# Altium schematic symbol library mcu_fmd.SchLib: 2 symbols
Pins are listed as number, name and electrical type; pins without a type are passive.

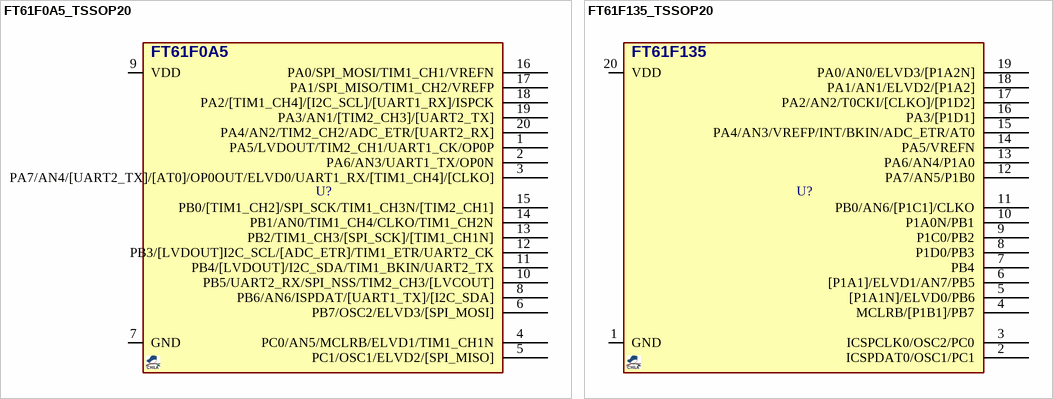
[diagram p0: symbols FT61F0A5_TSSOP20 to FT61F135_TSSOP20]

## FT61F0A5_TSSOP20
designator U?, comment FT61F135  (value not drawn)
MCU, FMD MCU 8-bit, 3KB FLASH, 256B SRAM; DESC: 128b EEPROM, 10-bit ADC, 3timers, UART, SPI, I2C; MANF_P#: FT61F0A5-TRB; PARAM2: 1.9~5.5VCC, 16MHz, 12-bit ADC; PARAM: 3KB FLASH, 256B SRAM, -40~85oC; MANF: FMD; PRICE: 0.3$; VALUE: FT61F135; PACKAGE: TSSOP-20
footprint SOG65_20 (PW TSSOP (TI), MO-153-AC (JEDEC), 20Lead, pitch: 0.65mm, 6.5x4.4x1.2mm)
pins: 1 PA5/LVDOUT/TIM2_CH1/UART1_CK/OP0P, 2 PA6/AN3/UART1_TX/OP0N, 3 PA7/AN4/[UART2_TX]/[AT0]/OP0OUT/ELVD0/UART1_RX/[TIM1_CH4]/[CLKO], 4 PC0/AN5/MCLRB/ELVD1/TIM1_CH1N, 5 PC1/OSC1/ELVD2/[SPI_MISO], 6 PB7/OSC2/ELVD3/[SPI_MOSI], 7 GND, 8 PB6/AN6/ISPDAT/[UART1_TX]/[I2C_SDA], 9 VDD, 10 PB5/UART2_RX/SPI_NSS/TIM2_CH3/[LVCOUT], 11 PB4/[LVDOUT]/I2C_SDA/TIM1_BKIN/UART2_TX, 12 PB3/[LVDOUT]I2C_SCL/[ADC_ETR]/TIM1_ETR/UART2_CK, 13 PB2/TIM1_CH3/[SPI_SCK]/[TIM1_CH1N], 14 PB1/AN0/TIM1_CH4/CLKO/TIM1_CH2N, 15 PB0/[TIM1_CH2]/SPI_SCK/TIM1_CH3N/[TIM2_CH1], 16 PA0/SPI_MOSI/TIM1_CH1/VREFN, 17 PA1/SPI_MISO/TIM1_CH2/VREFP, 18 PA2/[TIM1_CH4]/[I2C_SCL]/[UART1_RX]/ISPCK, 19 PA3/AN1/[TIM2_CH3]/[UART2_TX], 20 PA4/AN2/TIM2_CH2/ADC_ETR/[UART2_RX]
text: FT61F0A5

## FT61F135_TSSOP20
designator U?, comment FT61F135  (value not drawn)
MCU, FMD MCU 8-bit, 3KB FLASH, 256B SRAM; DESC: 128b EEPROM, 10-bit ADC, 3timers, UART, SPI, I2C; MANF_P#: FT61F135-TRB; PARAM2: 1.9~5.5VCC, 16MHz, 12-bit ADC; PARAM: 3KB FLASH, 256B SRAM, -40~85oC; MANF: FMD; PRICE: 0.3$; VALUE: FT61F135; PACKAGE: TSSOP-20
footprint SOG65_20 (PW TSSOP (TI), MO-153-AC (JEDEC), 20Lead, pitch: 0.65mm, 6.5x4.4x1.2mm)
pins: 1 GND (power), 2 ICSPDAT0/OSC1/PC1, 3 ICSPCLK0/OSC2/PC0, 4 MCLRB/[P1B1]/PB7, 5 [P1A1N]/ELVD0/PB6, 6 [P1A1]/ELVD1/AN7/PB5, 7 PB4, 8 P1D0/PB3, 9 P1C0/PB2, 10 P1A0N/PB1, 11 PB0/AN6/[P1C1]/CLKO, 12 PA7/AN5/P1B0, 13 PA6/AN4/P1A0, 14 PA5/VREFN, 15 PA4/AN3/VREFP/INT/BKIN/ADC_ETR/AT0, 16 PA3/[P1D1], 17 PA2/AN2/T0CKI/[CLKO]/[P1D2], 18 PA1/AN1/ELVD2/[P1A2], 19 PA0/AN0/ELVD3/[P1A2N], 20 VDD (power)